# Altium schematic symbol library EG1215AA.SchLib: 1 symbol
Pins are listed as number, name and electrical type; pins without a type are passive.

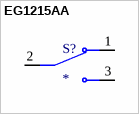
[diagram p0: symbol EG1215AA]

## EG1215AA
designator S?
Slide Switch SPDT Surface Mount, Right Angle; MF: {'manufacturer': u'E-Switch'}; MP: EG1215AA; Package: None; Value: *; Availability: Unavailable; Price: None
footprint SW_EG1215AA
pins: 1, 2, 3